# Altium integrated library MIC5317-3.3YM5.IntLib: 1 symbol
Pins are listed as number, name and electrical type; pins without a type are passive.

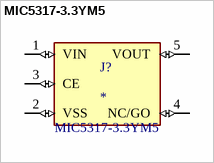
[diagram p0: symbol MIC5317-3.3YM5]

## MIC5317-3.3YM5
designator J?
MP: MIC5317-3.3YM5; MF: {'manufacturer': u'Microchip'}; Availability: Unavailable; Package: None; Price: None; Value: *
footprint SOT23-5
pins: 1 VIN (io), 2 VSS (io), 3 CE (io), 4 NC/GO (io), 5 VOUT (io)